# EAGLE library part ATECC508A-MAHCZ-S (library ATECC508A-MAHCZ-S)
Security ICs / Authentication ICs AWS IOT Provisioned ECC508A 10Kb - 8ld UDFN Generic SWI, 3K T&R <https://componentsearchengine.com/Images/1/ATECC508A-MAHCZ-S.jpg> Source: Datasheet <http://www.mouser.com/ds/2/268/Atmel-8923S-CryptoAuth-ATECC508A-Datasheet-Summary-1065793.pdf>
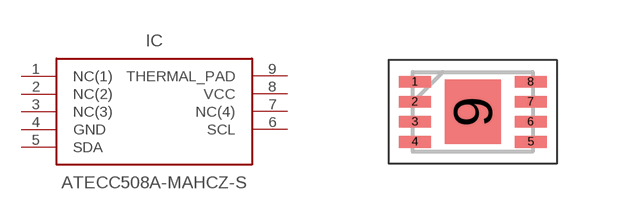
[diagram p0: symbol with the pads of SON50P300X200X60-9N; footprint SON50P300X200X60-9N]

Designator prefix IC

## ATECC508A-MAHCZ-S (Description: Security ICs / Authentication ICs AWS IOT Provisioned ECC508A 10Kb - 8ld UDFN Generic SWI, 3K T&R; Height: 0.6mm; Manufacturer_Name: Atmel; Manufacturer_Part_Number: ATECC508A-MAHCZ-S; Supplier_Name: RS)  [SON50P300X200X60-9N]
1  NC(1)  pas
2  NC(2)  pas
3  NC(3)  pas
4  GND  pas
5  SDA  pas
6  SCL  pas
7  NC(4)  pas
8  VCC  pas
9  THERMAL_PAD  pas

## Footprint SON50P300X200X60-9N (pad centres in mm)
8MA2_8-pad-UDFN
smd 0.8 x 0.3: 1 -1.45,0.75; 2 -1.45,0.25; 3 -1.45,-0.25; 4 -1.45,-0.75; 5 1.45,-0.75; 6 1.45,-0.25; 7 1.45,0.25; 8 1.45,0.75
smd 1.4 x 1.6: 9 0,0